# Altium schematic symbol library Modules.SchLib: 2 symbols
Pins are listed as number, name and electrical type; pins without a type are passive.

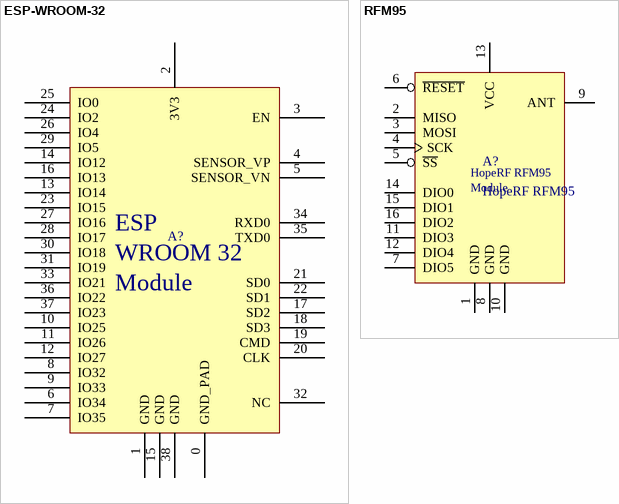
[diagram p0: symbols ESP-WROOM-32 to RFM95]

## ESP-WROOM-32
designator A?  (value not drawn)
ESP WROOM 32 Module; Supplier 1: Digi-Key; Supplier Part Number 1: 1528-1801-ND
footprint ESP-WROOM-32 (ESP WROOM 32 Module)
pins: 0 GND_PAD (power), 1 GND (power), 2 3V3 (power), 3 EN, 4 SENSOR_VP, 5 SENSOR_VN, 6 IO34, 7 IO35, 8 IO32, 9 IO33, 10 IO25, 11 IO26, 12 IO27, 13 IO14, 14 IO12, 15 GND (power), 16 IO13, 17 SD2, 18 SD3, 19 CMD, 20 CLK, 21 SD0, 22 SD1, 23 IO15, 24 IO2, 25 IO0, 26 IO4, 27 IO16, 28 IO17, 29 IO5, 30 IO18, 31 IO19, 32 NC, 33 IO21, 34 RXD0, 35 TXD0, 36 IO22, 37 IO23, 38 GND (power)
text: ESP; WROOM 32; Module

## RFM95
designator A?, comment HopeRF RFM95
HopeRF RFM95 915MHz LoRa Radio; Supplier 1: Digi-Key; Supplier 2: Digi-Key; Supplier Part Number 1: 1597-1488-ND; Supplier Part Number 2: RFM95W-915S2-ND
footprint RFM95/9697/98W (HopeRF RFM95 RFM96 RFM97 RFM98)
pins: 1 GND, 2 MISO, 3 MOSI, 4 SCK, 5 ~{SS}, 6 ~{RESET}, 7 DIO5, 8 GND, 9 ANT, 10 GND, 11 DIO3, 12 DIO4, 13 VCC, 14 DIO0, 15 DIO1, 16 DIO2
text: Module